# Altium footprint library Capacitors_SMD.PcbLib: 14 footprints
Each footprint in its own frame and in the unit in brackets; x right, y up, seen from the top. Pads: shape width x height; smd on the part's side, far side on the other; paste and mask are expansions set on the pad; w line width, h text height; cw(c..) or ccw(c..) is an arc to the next point about the centre after c.
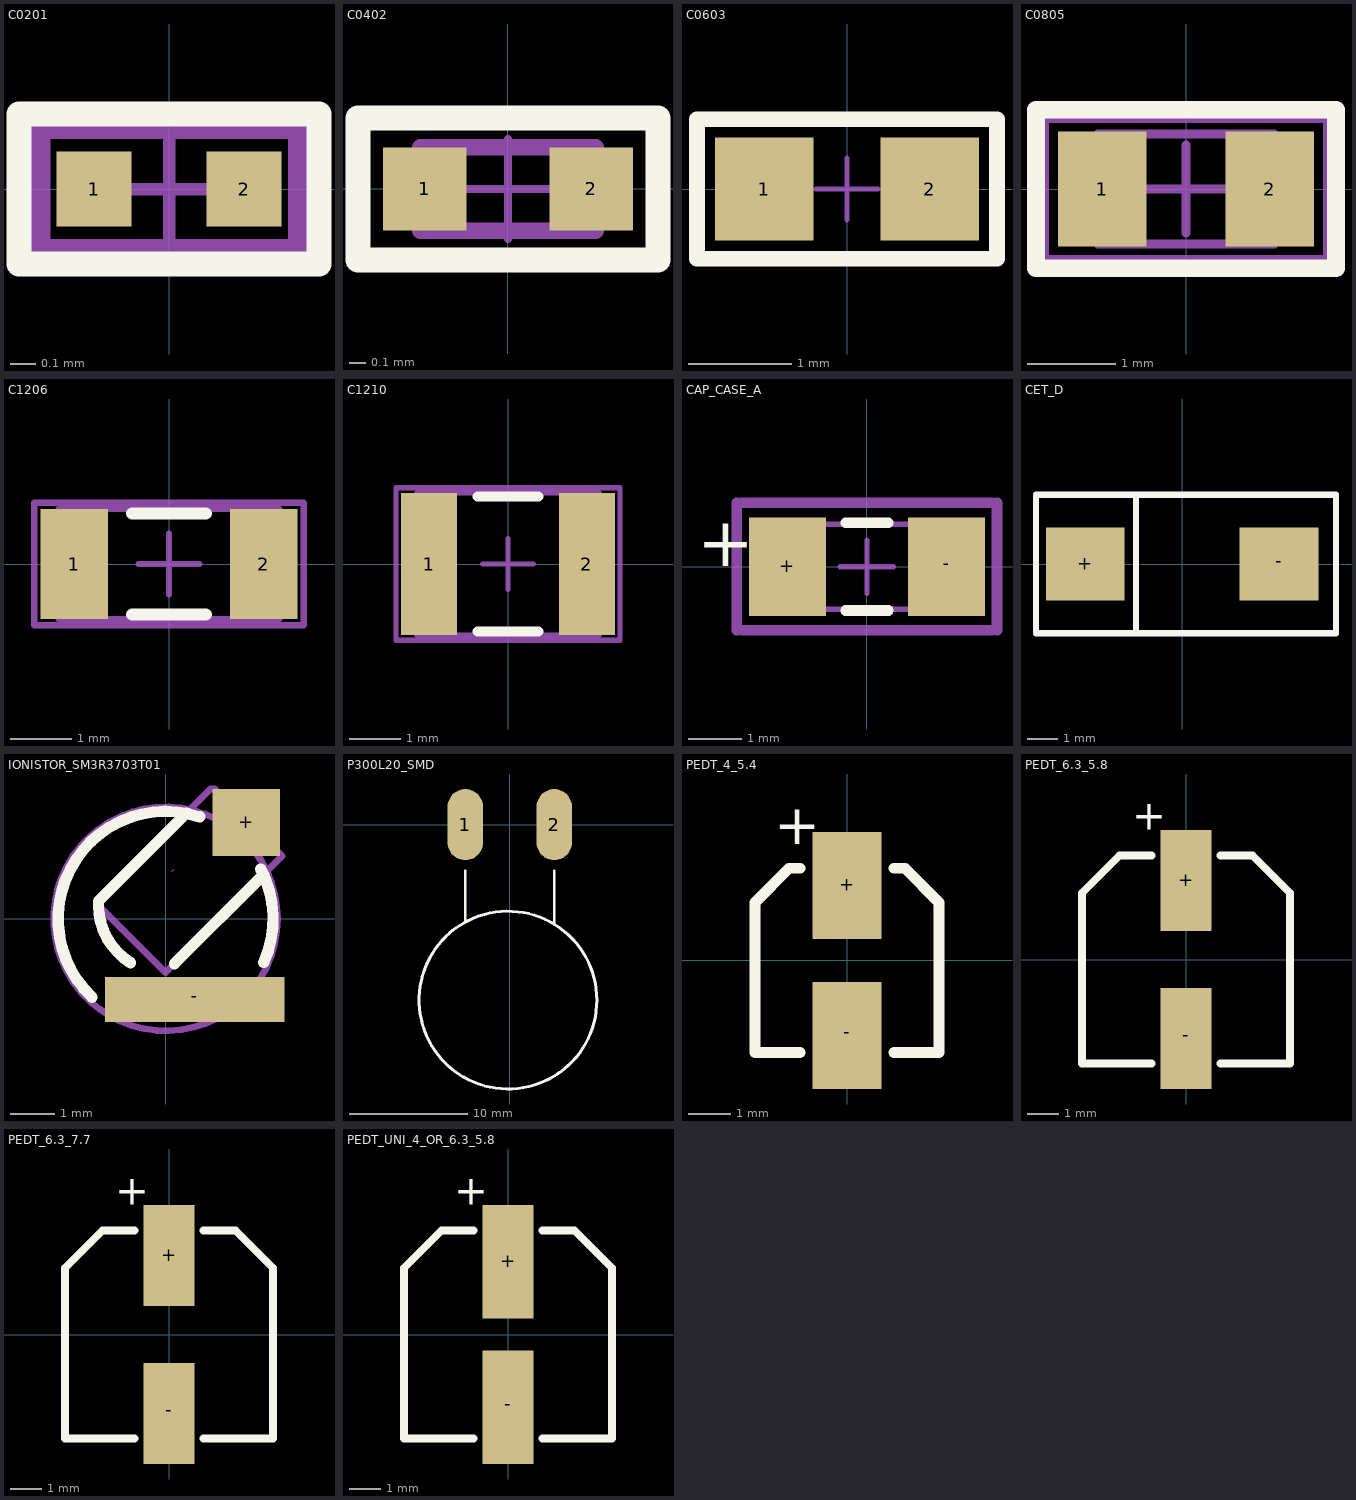
[diagram p0: the footprints below, top view; thin cyan lines are the x and y axes]

## C0201 [mm] "Chip Ceramic Capacitor"
height 0.23
pads (2):
  rect 0.3x0.3 smd: 1(-0.3,0) 2(0.3,0)
Top Overlay:
  lines w0.1: -0.6,-0.3 -0.6,0.3 0.6,0.3 0.6,-0.3 -0.6,-0.3
Mechanical 13:
  lines w0.1: -0.525,-0.25 0.525,-0.25 0.525,0.25 -0.525,0.25 -0.525,-0.25
Mechanical 15:
  lines w0.05: -0.3,0 0.3,0 ; 0,-0.3 0,0.3 ; -0.6,-0.3 0.6,-0.3 0.6,0.3 -0.6,0.3 -0.6,-0.3
3D body "rsmd-0201_l0-6_w0-3_h0-23.stp": height 0.23, standoff 0, extent -0.3,-0.15 0.3,0.15

## C0402 [mm] "Chip Ceramic Capacitor"
height 0.35
pads (2):
  rect 0.5x0.5 smd: 1(-0.5,0) 2(0.5,0)
Top Overlay:
  lines w0.15: -0.9,-0.425 -0.9,0.425 0.9,0.425 0.9,-0.425 -0.9,-0.425
Mechanical 13:
  lines w0.1: -0.525,-0.25 0.525,-0.25 0.525,0.25 -0.525,0.25 -0.525,-0.25
Mechanical 15:
  lines w0.05: -0.3,0 0.3,0 ; 0,-0.3 0,0.3 ; -0.9,-0.425 0.9,-0.425 0.9,0.425 -0.9,0.425 -0.9,-0.425
3D body "C0402.STEP": height 0.5, standoff 0, extent -0.5,-0.25 0.5,0.25

## C0603 [mm] "Chip Ceramic Capacitor"
height 0.9
pads (2):
  rect 0.95x1 smd: 1(-0.8,0) 2(0.8,0)
Top Overlay:
  lines w0.15: -1.45,-0.675 1.45,-0.675 1.45,0.675 -1.45,0.675 -1.45,-0.675
Mechanical 15:
  lines w0.05: -0.3,0 0.3,0 ; 0,-0.3 0,0.3 ; -1.45,-0.675 -1.45,0.675 1.425,0.675 1.425,-0.675 -1.45,-0.675
3D body "CAPC1608X87N.stp": height 0.87, standoff 0, extent -0.875,-0.475 0.875,0.475

## C0805 [mm] "Chip Ceramic Capacitor"
height 1.3
pads (2):
  rect 1x1.3 smd: 1(-0.95,0) 2(0.95,0)
Top Overlay:
  lines w0.2: -1.7,-0.9 1.7,-0.9 1.7,0.9 -1.7,0.9 -1.7,-0.9
Mechanical 13:
  lines w0.1: -1,-0.625 1,-0.625 1,0.625 -1,0.625 -1,-0.625
Mechanical 15:
  lines w0.1: -0.5,0 0.5,0 ; 0,-0.5 0,0.5 ; -1.6,-0.8 -1.6,0.8 1.6,0.8 1.6,-0.8 -1.6,-0.8
3D body "0805 cap.STEP": height 1.26, standoff -0.02, extent -1,-0.637 1,0.637

## C1206 [mm] "Chip Ceramic Capacitor"
height 1.5
pads (2):
  rect 1.1x1.8 smd: 1(-1.55,0) 2(1.55,0)
Top Overlay:
  lines w0.2: -0.6,-0.825 0.6,-0.825 ; -0.6,0.825 0.6,0.825
Mechanical 13:
  lines w0.1: -1.8,-0.9 -1.8,0.9 1.8,0.9 1.8,-0.9 -1.8,-0.9
Mechanical 15:
  lines w0.1: -0.5,0 0.5,0 ; 0,-0.5 0,0.5 ; -2.2,-1 2.2,-1 2.2,1 -2.2,1 -2.2,-1
3D body "CAP 1206-1.8mm.STEP": height 1.8, standoff 0, extent -1.6,-0.8 1.6,0.8

## C1210 [mm] "Chip Ceramic Capacitor"
height 1.7
pads (2):
  rect 1.1x2.8 smd: 1(-1.55,0) 2(1.55,0)
Top Overlay:
  lines w0.2: -0.6,-1.325 0.6,-1.325 ; -0.6,1.325 0.6,1.325
Mechanical 13:
  lines w0.1: -1.8,-1.4 1.8,-1.4 1.8,1.4 -1.8,1.4 -1.8,-1.4
Mechanical 15:
  lines w0.1: -0.5,0 0.5,0 ; 0,-0.5 0,0.5 ; -2.2,-1.5 2.2,-1.5 2.2,1.5 -2.2,1.5 -2.2,-1.5
3D body "CAP 1210-2.5mm.STEP": height 2.5, standoff 0, extent -1.6,-1.25 1.6,1.25

## CAP_CASE_A [mm]
pads (2):
  rect 1.45x1.85 smd: +(-1.5,0) -(1.5,0)
Top Overlay:
  lines w0.2: -0.4,-0.825 0.4,-0.825 ; -0.4,0.825 0.4,0.825
  text "+" at -3.2,-0.3 h1.6
Mechanical 13:
  rectangle: -1.3,-0.8 -1,0.8
  lines w0.1: -1.8,-0.8 1.8,-0.8 1.8,0.8 -1.8,0.8 -1.8,-0.8
Mechanical 15:
  lines w0.1: -0.5,0 0.5,0 ; 0,-0.5 0,0.5
  lines w0.2: -2.45,-1.2 -2.45,1.2 ; -2.35,-1.2 2.35,-1.2 ; -2.35,1.2 2.35,1.2 ; 2.45,-1.2 2.45,1.2
3D body "Tantalum Capacitor Case A.STEP": height 1.64, standoff -0.01, extent -1.695,-0.8 1.695,0.8

## CET_D [mm]
pads (2):
  rect 2.6x2.4 smd: +(-3.2,0) -(3.2,0)
Top Overlay:
  lines w0.2: -1.524,-2.286 -1.524,2.286 ; -4.826,-2.286 5.08,-2.286 5.08,2.286 -4.826,2.286 -4.826,-2.286
3D body "Tantalum_CaseD.STEP": height 2.8, standoff 0, extent -3.65,-2.15 3.65,2.15

## IONISTOR_SM3R3703T01 [mm]
pads (2):
  rect 1.5x1.5 smd: +(1.802,2.15)
  rect 4x1 smd: -(0.652,-1.8)
Top Overlay:
  lines w0.254: -1.645,-1.748 cw(c0,0) 0.759,2.277 ; -0.784,-0.977 cw(c0.002,0.3) -1.498,0.3 -1.498,0.4 0.458,2.356 ; 0.2,-1 2.188,0.986 ; 2.126,1.114 cw(c0,0) 2.193,-0.975
Top Courtyard:
  lines w0.003: 0.14,1.058 0.19,1.108
Top Assembly:
  circle w0.15: c0,0 r2.5
  lines w0.15: -1.498,0.3 0.002,-1.2 2.602,1.4 1.102,2.9 1.002,2.9 -1.498,0.4 -1.498,0.3
3D body: height 1.6, standoff 0.1, extent -2.5,-2.5 2.5,2.5

## P300L20_SMD [mm]
pads (2):
  oval 3x6 smd: 1(-3.75,0) 2(3.75,0)
Top Overlay:
  circle w0.254: c-0.15,-14.8 r7.495
  lines w0.2: -3.75,-8.2 -3.75,-3.9 ; 3.75,-8.4 3.75,-3.9
3D body "P300L20.STEP": height 2.9, standoff -2.7, extent -8.15,-22.934 7.85,2.423

## PEDT_4_5.4 [mm] "Solid Polymer Electrolytic Capacitor"
height 5.8
pads (2):
  rect 1.6x2.5 smd: +(0,1.75) -(0,-1.75)
Top Overlay:
  lines w0.254: -1.1,-2.15 -2.15,-2.15 -2.15,1.35 -1.35,2.15 -1.1,2.15 ; 1.1,-2.15 2.15,-2.15 2.15,1.35 1.35,2.15 1.1,2.15
  text "+" at -1.7,2.4 h1.6
3D body "User Library-4x5_4.STEP": height 7, standoff 1.3, extent -2.15,-2.65 2.15,2.65

## PEDT_6.3_5.8 [mm] "Solid Polymer Electrolytic Capacitor"
height 5.8
pads (2):
  rect 1.6x3.2 smd: +(0,2.5) -(0,-2.5)
Top Overlay:
  lines w0.254: -1.1,-3.3 -3.3,-3.3 -3.3,2.1 -2.1,3.3 -1.1,3.3 ; 1.1,-3.3 3.3,-3.3 3.3,2.1 2.1,3.3 1.1,3.3
  text "+" at -1.7,3.8 h1.6
3D body "SMD_ELKO_6,3x5,8.stp": height 5.71, standoff 0.1, extent -3.3,-3.5 3.3,3.5

## PEDT_6.3_7.7 [mm] "Solid Polymer Electrolytic Capacitor"
height 7.7
pads (2):
  rect 1.6x3.2 smd: +(0,2.5) -(0,-2.5)
Top Overlay:
  lines w0.254: -1.1,-3.3 -3.3,-3.3 -3.3,2.1 -2.1,3.3 -1.1,3.3 ; 1.1,-3.3 3.3,-3.3 3.3,2.1 2.1,3.3 1.1,3.3
  text "+" at -1.7,3.8 h1.6
3D body: height 7.7, standoff 0, extent -3.15,-3.15 3.15,3.15
3D body "SMD_ELKO_6,3x5,8.stp": height 5.71, standoff 0.1, extent -3.3,-3.5 3.3,3.5

## PEDT_UNI_4_OR_6.3_5.8 [mm] "Solid Polymer Electrolytic Capacitor"
height 5.8
pads (2):
  rect 1.6x3.6 smd: +(0,2.3) -(0,-2.3)
Top Overlay:
  lines w0.254: -1.1,-3.3 -3.3,-3.3 -3.3,2.1 -2.1,3.3 -1.1,3.3 ; 1.1,-3.3 3.3,-3.3 3.3,2.1 2.1,3.3 1.1,3.3
  text "+" at -1.7,3.8 h1.6
3D body "SMD_ELKO_6,3x5,8.stp": height 5.71, standoff 0.1, extent -3.3,-3.5 3.3,3.5